# Altium schematic symbol library SnapEDAsch.SchLib: 1 symbol
Pins are listed as number, name and electrical type; pins without a type are passive.

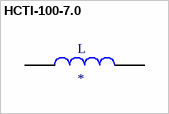
[diagram p0: symbol HCTI-100-7.0]

## HCTI-100-7.0
designator L
High Current Toroidal Inductor | 100 uH; MP: HCTI-100-7.0; MF: Signal Transformer; Package: Radial Bel Fuse; Price: None; SnapEDA_Link: https://www.snapeda.com/parts/HCTI-100-7.0/Signal%20Transformer/view-part/1645892/?ref=snap; Availability: Unavailable; Value: *
footprint IND_HCTI-68-7.7
pins: 1, 2